# Altium schematic symbol library isa_fdc-rescue.SchLib: 22 symbols
Pins are listed as number, name and electrical type; pins without a type are passive.

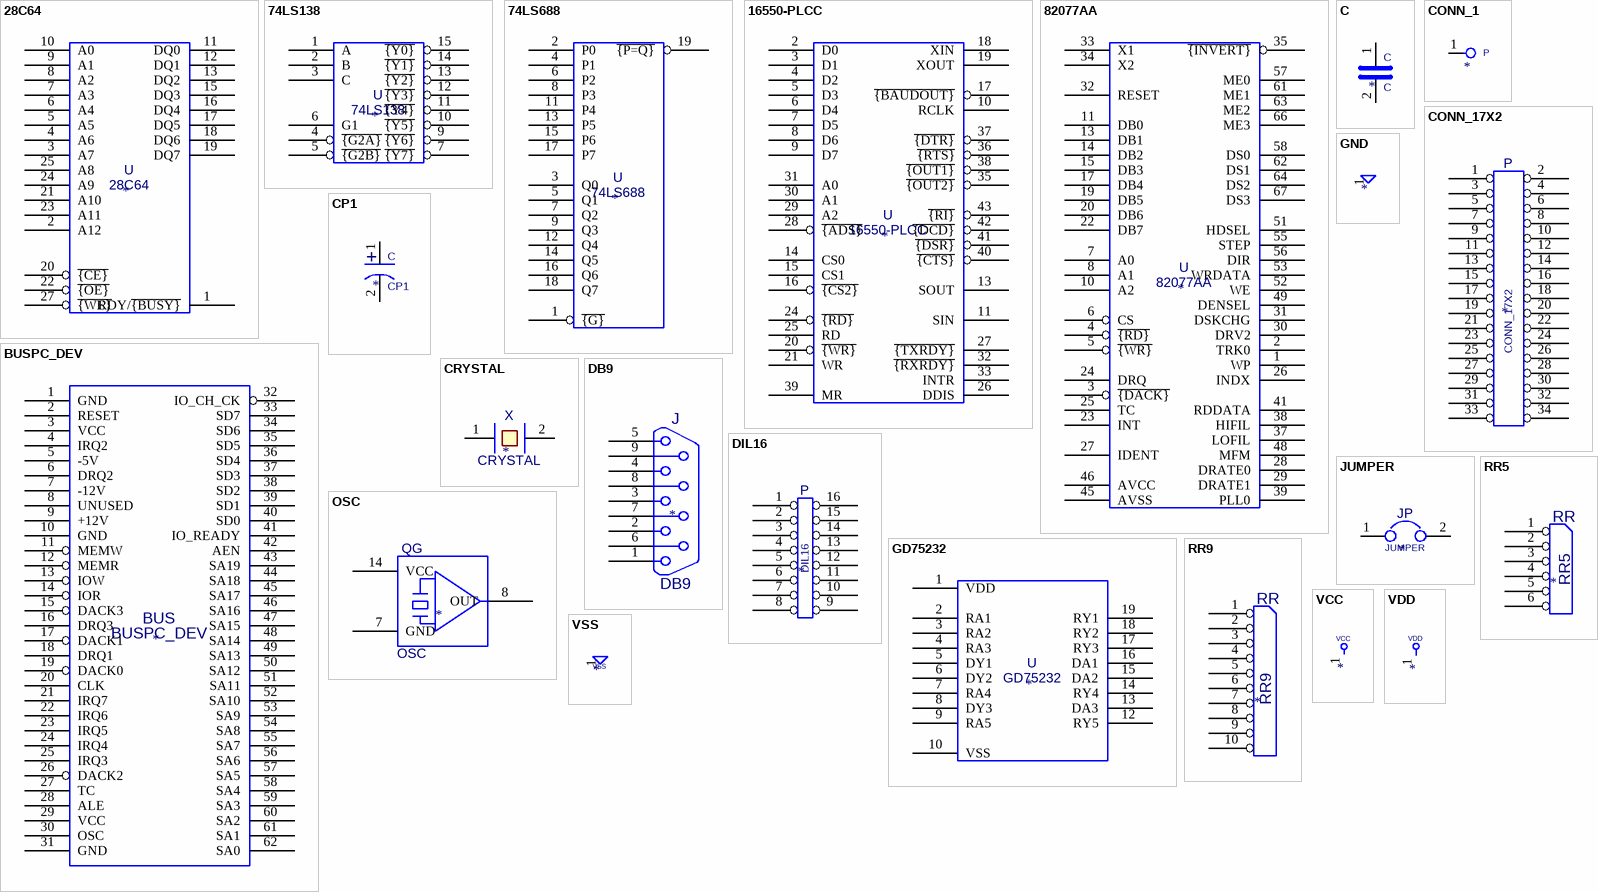
[diagram p0: symbols 28C64 to VSS]

## 28C64
designator U  value 28C64
pins: 1 RDY/~{{BUSY}}, 2 A12, 3 A7, 4 A6, 5 A5, 6 A4, 7 A3, 8 A2, 9 A1, 10 A0, 11 DQ0, 12 DQ1, 13 DQ2, 14 GND hidden, 15 DQ3, 16 DQ4, 17 DQ5, 18 DQ6, 19 DQ7, 20 ~{{CE}}, 21 A10, 22 ~{{OE}}, 23 A11, 24 A9, 25 A8, 26 NC hidden, 27 ~{{WE}}, 28 VCC hidden

## 74LS138
designator U  value 74LS138
pins: 1 A, 2 B, 3 C, 4 ~{{G2A}}, 5 ~{{G2B}}, 6 G1, 7 ~{{Y7}}, 8 GND hidden, 9 ~{{Y6}}, 10 ~{{Y5}}, 11 ~{{Y4}}, 12 ~{{Y3}}, 13 ~{{Y2}}, 14 ~{{Y1}}, 15 ~{{Y0}}, 16 VCC hidden

## 74LS688
designator U  value 74LS688
pins: 1 ~{{G}}, 2 P0, 3 Q0, 4 P1, 5 Q1, 6 P2, 7 Q2, 8 P3, 9 Q3, 10 GND hidden, 11 P4, 12 Q4, 13 P5, 14 Q5, 15 P6, 16 Q6, 17 P7, 18 Q7, 19 ~{{P=Q}}, 20 VCC hidden

## 16550-PLCC
designator U  value 16550-PLCC
pins: 1 hidden, 2 D0, 3 D1, 4 D2, 5 D3, 6 D4, 7 D5, 8 D6, 9 D7, 10 RCLK, 11 SIN, 12 hidden, 13 SOUT, 14 CS0, 15 CS1, 16 ~{{CS2}}, 17 ~{{BAUDOUT}}, 18 XIN, 19 XOUT, 20 ~{{WR}}, 21 WR, 22 GND hidden, 23 hidden, 24 ~{{RD}}, 25 RD, 26 DDIS, 27 ~{{TXRDY}}, 28 ~{{ADS}}, 29 A2, 30 A1, 31 A0, 32 ~{{RXRDY}}, 33 INTR, 34 hidden, 35 ~{{OUT2}}, 36 ~{{RTS}}, 37 ~{{DTR}}, 38 ~{{OUT1}}, 39 MR, 40 ~{{CTS}}, 41 ~{{DSR}}, 42 ~{{DCD}}, 43 ~{{RI}}, 44 VCC hidden

## 82077AA
designator U  value 82077AA
pins: 1 WP, 2 TRK0, 3 ~{{DACK}}, 4 ~{{RD}}, 5 ~{{WR}}, 6 CS, 7 A0, 8 A1, 9 GND hidden, 10 A2, 11 DB0, 12 GND hidden, 13 DB1, 14 DB2, 15 DB3, 16 GND hidden, 17 DB4, 18 VCC hidden, 19 DB5, 20 DB6, 21 GND hidden, 22 DB7, 23 INT, 24 DRQ, 25 TC, 26 INDX, 27 IDENT, 28 DRATE0, 29 DRATE1, 30 DRV2, 31 DSKCHG, 32 RESET, 33 X1, 34 X2, 35 ~{{INVERT}}, 36 GND hidden, 37 LOFIL, 38 HIFIL, 39 PLL0, 40 VCC hidden, 41 RDDATA, 42 NC hidden, 43 NC hidden, 44 NC hidden, 45 AVSS, 46 AVCC, 47 NC hidden, 48 MFM, 49 DENSEL, 50 GND hidden, 51 HDSEL, 52 WE, 53 WRDATA, 54 GND hidden, 55 STEP, 56 DIR, 57 ME0, 58 DS0, 59 GND hidden, 60 VCC hidden, 61 ME1, 62 DS1, 63 ME2, 64 DS2, 65 GND hidden, 66 ME3, 67 DS3, 68 VCC hidden

## BUSPC_DEV
designator BUS  value BUSPC_DEV
pins: 1 GND, 2 RESET, 3 VCC, 4 IRQ2, 5 -5V, 6 DRQ2, 7 -12V, 8 UNUSED, 9 +12V, 10 GND, 11 MEMW, 12 MEMR, 13 IOW, 14 IOR, 15 DACK3, 16 DRQ3, 17 DACK1, 18 DRQ1, 19 DACK0, 20 CLK, 21 IRQ7, 22 IRQ6, 23 IRQ5, 24 IRQ4, 25 IRQ3, 26 DACK2, 27 TC, 28 ALE, 29 VCC, 30 OSC, 31 GND, 32 IO_CH_CK, 33 SD7, 34 SD6, 35 SD5, 36 SD4, 37 SD3, 38 SD2, 39 SD1, 40 SD0, 41 IO_READY, 42 AEN, 43 SA19, 44 SA18, 45 SA17, 46 SA16, 47 SA15, 48 SA14, 49 SA13, 50 SA12, 51 SA11, 52 SA10, 53 SA9, 54 SA8, 55 SA7, 56 SA6, 57 SA5, 58 SA4, 59 SA3, 60 SA2, 61 SA1, 62 SA0

## C
designator C  value C
pins: 1, 2

## CONN_1
designator P
Value: CONN_1
pins: 1

## CONN_17X2
designator P  value CONN_17X2
pins: 1 P1, 2 P2, 3 P3, 4 P4, 5 P5, 6 P6, 7 P7, 8 P8, 9 P9, 10 P10, 11 P11, 12 P12, 13 P13, 14 P14, 15 P15, 16 P16, 17 P17, 18 P18, 19 P19, 20 P20, 21 P21, 22 P22, 23 P23, 24 P24, 25, 26 P26, 27 P27, 28 P28, 29 P29, 30 P30, 31 P31, 32 P32, 33 P33, 34 P34

## CP1
designator C  value CP1
pins: 1, 2
text: +

## CRYSTAL
designator X  value CRYSTAL
pins: 1, 2

## DB9
designator J  value DB9
pins: 1, 2, 3, 4, 5, 6 P6, 7 P7, 8 P8, 9 P9

## DIL16
designator P  value DIL16
pins: 1, 2, 3, 4, 5, 6, 7, 8, 9, 10, 11, 12, 13, 14, 15, 16

## GD75232
designator U  value GD75232
pins: 1 VDD, 2 RA1, 3 RA2, 4 RA3, 5 DY1, 6 DY2, 7 RA4, 8 DY3, 9 RA5, 10 VSS, 11 GND hidden, 12 RY5, 13 DA3, 14 RY4, 15 DA2, 16 DA1, 17 RY3, 18 RY2, 19 RY1, 20 VCC hidden

## GND
designator #PWR
Value: GND
pins: 1 GND

## JUMPER
designator JP  value JUMPER
pins: 1, 2

## OSC
designator QG  value OSC
pins: 7 GND, 8 OUT, 14 VCC

## RR5
designator RR  value RR5
pins: 1 COM, 2, 3, 4, 5, 6

## RR9
designator RR  value RR9
pins: 1 COM, 2, 3, 4, 5, 6, 7, 8, 9, 10

## VCC
designator #PWR  value VCC
pins: 1 VCC

## VDD
designator #PWR  value VDD
pins: 1 VDD

## VSS
designator #PWR  value VSS
pins: 1 VSS